# Altium schematic symbol library MMDLibrary.SCHLIB: 102 symbols
Pins are listed as number, name and electrical type; pins without a type are passive.

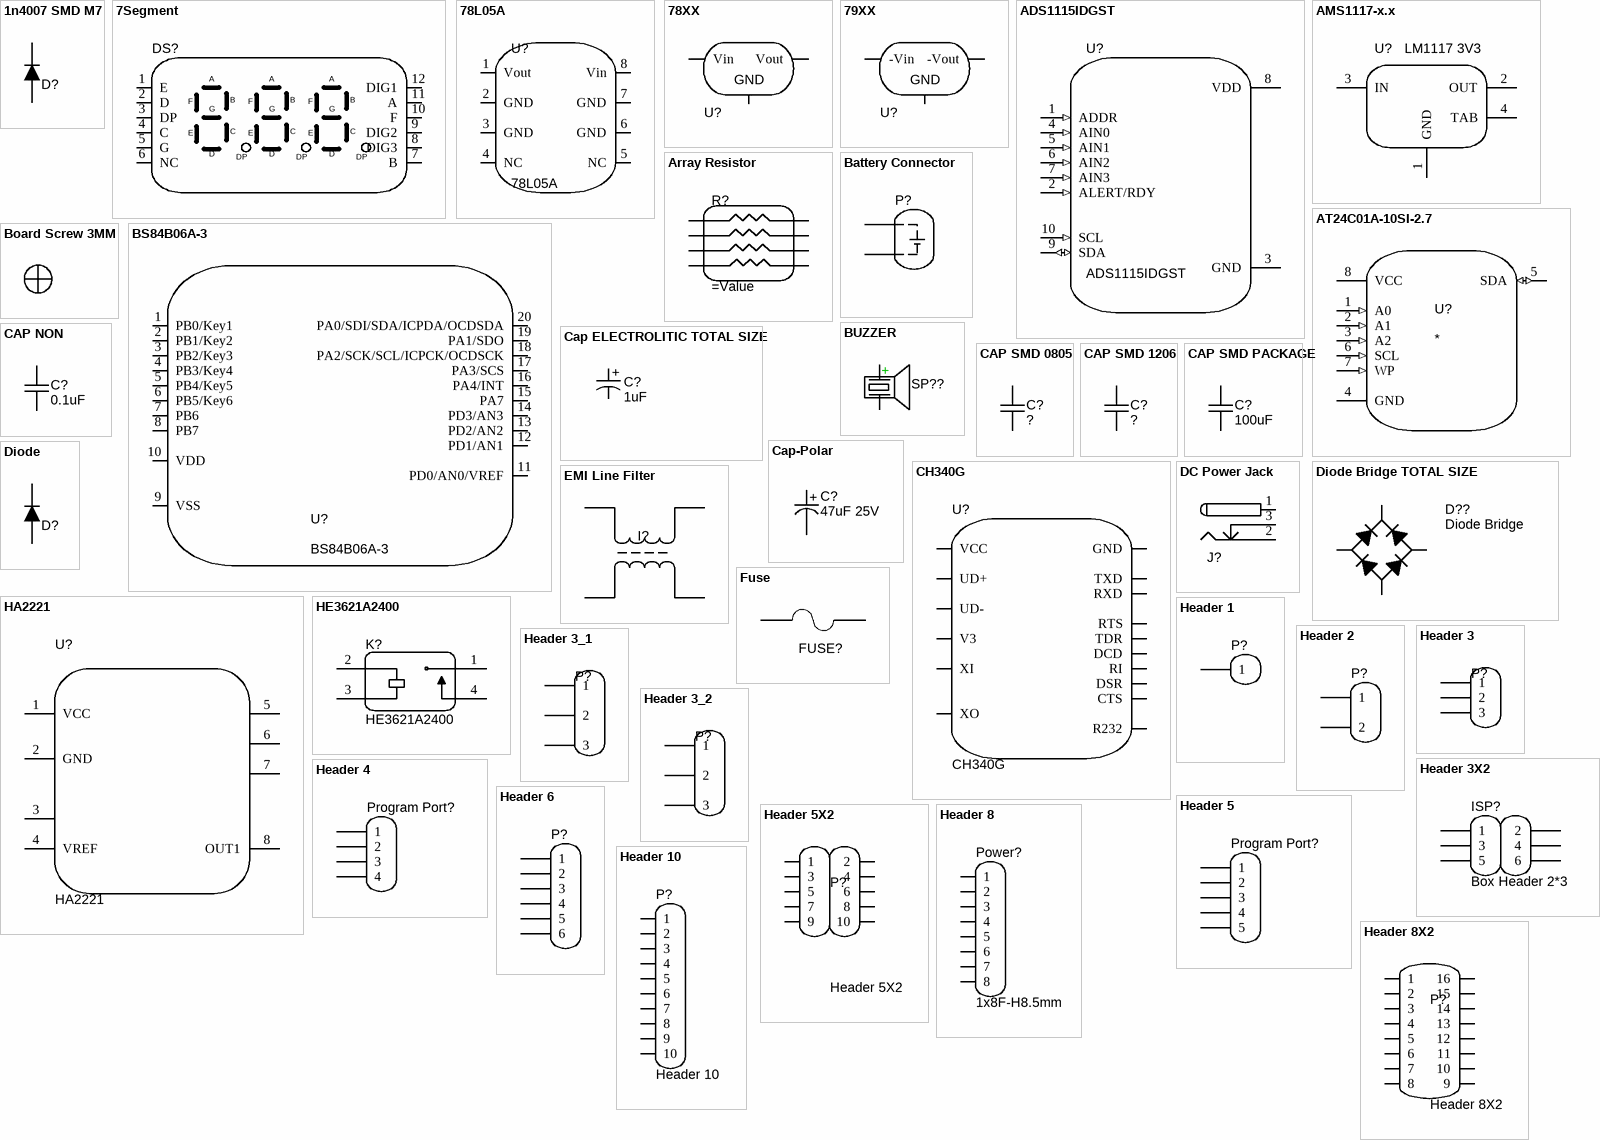
[diagram p0: symbols 1n4007 SMD M7 to Header 10]

## 1n4007 SMD M7
designator D?, comment 1n4007  (value not drawn)
Standard Rectifiers; Part. No: M7; Manufacturer: DC COMPONENTS; Designer: M Khosravi; Link: https://www.aliexpress.com/item/Smd-tube-1n4007-m7-SMA/1213719741.html?spm=2114.01010208.3.1.ZyZ7bC&ws_ab_test=searchweb0_0,searchweb201602_4_10065_10068_10084_10083_10080_10082_10081_10060_10061_10062_10056_10055_10054_10059_10099_10078_10079_427_10073_10103_10102_10096_10052_10050_10051,searchweb201603_4&btsid=db2be5ca-e560-400a-b91c-484ab5ee228b; Data: 16-12-2016
footprint DIOM4629X24N (Molded Diode, 2-Leads, Body 4/60x2/90mm, IPC Medium Density)
footprint SOD80, LL-34 (Diode, MiniMELF)
pins: 1, 2

## 7Segment
designator DS?
4031BS_CA / 0.4Inch / 3Bit
footprint SN460561N (DS101)
pins: 1 E, 2 D, 3 DP, 4 C, 5 G, 6 NC, 7 B, 8 DIG3, 9 DIG2, 10 F, 11 A, 12 DIG1

## 78L05A
designator U?
footprint SOIC127P600X175-8N
pins: 1 Vout, 2 GND, 3 GND, 4 NC, 5 NC, 6 GND, 7 GND, 8 Vin

## 78XX
designator U?  (value not drawn)
footprint TO-220 AB WITH HEAT SINK (Epoxy meets UL94, V0)
footprint TO-220 AB (Epoxy meets UL94, V0)
footprint TO-220 AB S (Epoxy meets UL94, V0)
footprint TO-220 AB WITH HEAT SINK ASM
footprint TO-220 AB with heatsink ya25 (Epoxy meets UL94, V0-Design:Abbas Basereh)
pins: 1 Vin, 2 GND, 3 Vout
1 alternate drawing of the same symbol

## 79XX
designator U?  (value not drawn)
Linear Voltage Regulator 79XX
footprint TO-220 AB WITH HEAT SINK (Epoxy meets UL94, V0)
footprint TO-220 AB (Epoxy meets UL94, V0)
footprint TO-220 AB S (Epoxy meets UL94, V0)
footprint TO-220 AB WITH HEAT SINK ASM
footprint TO-220 AB with heatsink ya25 (Epoxy meets UL94, V0-Design:Abbas Basereh)
pins: 1 -Vin, 2 GND, 3 -Vout

## ADS1115IDGST
designator U?
MP: ADS1115IDGST; Value: *; Price: None; Package: None; Availability: Unavailable
footprint SOP50P490X110-10N
pins: 1 ADDR (in), 2 ALERT/RDY (in), 3 GND (power), 4 AIN0 (in), 5 AIN1 (in), 6 AIN2 (in), 7 AIN3 (in), 8 VDD (power), 9 SDA (io), 10 SCL (in)

## AMS1117-x.x
designator U?, comment LM1117 3V3
x.x Volt, 800mA Low-Dropout Linear Regulator, 4-pin SOT-223; Designer: M Khosravi; Data: 16-12-2016
footprint SOT223 (SOT223, 4-Leads, Body 6.5x3.5mm, Pitch 2.30mm-Designer Abbas Basereh)
footprint SOT223_L (SOT223, 4-Leads, Body 6.5x3.5mm, Pitch 2.3mm, Lead Span 7mm, IPC High Density)
footprint SOT223_M (SOT223, 4-Leads, Body 6.5x3.5mm, Pitch 2.3mm, Lead Span 7mm, IPC Low Density)
footprint SOT223_N (SOT223, 4-Leads, Body 6.5x3.5mm, Pitch 2.3mm, Lead Span 7mm, IPC Medium Density)
pins: 1 GND (power), 2 OUT (power), 3 IN (power), 4 TAB (power)

## Array Resistor
designator R?
YC164-JR-07330RL
footprint RESCAXE80P320X160X70-8N
footprint RESCAXE80P320X160X70-8N
footprint RESCAXE80P320X160X70-8N
footprint RESCAXE80P320X160X70-8N
pins: 1, 2, 3, 4, 5, 6, 7, 8

## AT24C01A-10SI-2.7
designator U?
Two-wire Serial EEPROM; MP: AT24C01A-10SI-2.7; Package: None; Price: None; Value: *; Availability: Unavailable
footprint SOIC127P600X175-8N
pins: 1 A0 (in), 2 A1 (in), 3 A2 (in), 4 GND, 5 SDA (io), 6 SCL (in), 7 WP (in), 8 VCC (power)

## Battery Connector
designator P?
footprint HDR1X2 (Connector; Header; 2 Position)
pins: 1, 2

## Board Screw 3MM
designator M?, comment Screw  (value not drawn)
Board Screw With Spacer
footprint Board Screw
footprint Board Screw 3mm

## BS84B06A-3
designator U?
Touch A/D Flash MCU / BS84B06A-3
footprint SO20_WIDE_M (20-Pin Small Outline Package (SO20), IPC Low Density)
pins: 1 PB0/Key1, 2 PB1/Key2, 3 PB2/Key3, 4 PB3/Key4, 5 PB4/Key5, 6 PB5/Key6, 7 PB6, 8 PB7, 9 VSS, 10 VDD, 11 PD0/AN0/VREF, 12 PD1/AN1, 13 PD2/AN2, 14 PD3/AN3, 15 PA7, 16 PA4/INT, 17 PA3/SCS, 18 PA2/SCK/SCL/ICPCK/OCDSCK, 19 PA1/SDO, 20 PA0/SDI/SDA/ICPDA/OCDSDA

## BUZZER
designator SP??
PIEZO BUZZER ACTIVE; Designer: M Khosravi; Design Date: 1395/11/14; ComponentLink2Description: Reference; PackageDescription: THD; Publisher: M Khosravi; Mounting Technology: THD; Pin Count: 2; Status: Unreleased
footprint BUZZER 7.62mm DC (BUZZER 12mm DIA , 7.62mm pitch DESIGNER ABBAS BASEREH)
pins: 1 +, 2 -

## Cap ELECTROLITIC TOTAL SIZE
designator C?, comment 1uF
Cap electrolitic radial; VALUE: 1uF
footprint Cap electrolitic radial 10x20-5 (Cap electrolitic radial 10x20-5-Design:Abbas Basereh)
footprint Cap electrolitic radial 8x12-3.5 (Cap electrolitic radial 8x12-3.5-Design:Abbas Basereh)
footprint Cap electrolitic radial 10x16-5 (Cap electrolitic radial 10x16-5-Design:Abbas Basereh)
footprint Cap electrolitic radial 10x25-5 (Cap electrolitic radial 10x25-5-Design:Abbas Basereh)
footprint Cap electrolitic radial 10x30-5 (Cap electrolitic radial 10x30-5-Design:Abbas Basereh)
footprint Cap electrolitic radial 13x25-5 (Cap electrolitic radial 13x25-5-Design:Abbas Basereh)
footprint Cap electrolitic radial 16x26-7.5 (Cap electrolitic radial 16x26-7.5-Design:Abbas Basereh)
footprint Cap electrolitic radial 16x31.5-7.5 (Cap electrolitic radial 16x31.5-7.5-Design:Abbas Basereh)
footprint Cap electrolitic radial 18x26 (Cap electrolitic radial 18x26-Design:Abbas Basereh)
footprint Cap electrolitic radial 18x36-7.5 (Cap electrolitic radial 18x36-7.5-Design:Abbas Basereh)
footprint Cap electrolitic radial 18x40-7.5 (Cap electrolitic radial 18x40-7.5-Design:Abbas Basereh)
footprint Cap electrolitic radial 5x11-2 (Cap electrolitic radial 5x11-2-Design:Abbas Basereh)
footprint Cap electrolitic radial 5x12-2 (Cap electrolitic radial 5x12-2-Design:Abbas Basereh)
footprint Cap electrolitic radial 8x14-3.5 (Cap electrolitic radial 8x14-3.5-Design:Abbas Basereh)
footprint Cap electrolitic radial 6x7-2.5 (Cap electrolitic radial 6x7-2.5-Design:Abbas Basereh)
footprint Cap electrolitic radial 4x7-1.5 (Cap electrolitic radial 5x11-2-Design:Ali Hafizi)
footprint Cap electrolitic radial 6.3x12-2.5 (Capacitor Electrolytic D=6.3 x H=12 - P=2.5 mm, Altium Compatible)
footprint Cap electrolitic radial 8MM (Cap electrolitic radial 8MM-Design:Ali Hafizi)
footprint Cap electrolitic radial 8x11.5-3.5 (Cap electrolitic radial 8x11.5-3.5-Design:Ali Hafizi)
footprint Cap electrolitic radial 12.5x20-5 (Cap electrolitic radial 12.5x20-5-Design:Abbas Basereh)
footprint Cap electrolitic radial 12.5x25-5 (Cap electrolitic radial 12.5x25-5-Design:Abbas Basereh)
footprint Cap electrolitic radial 12.5x21.5-5 (Cap electrolitic radial 12.5x21.5-5-Design:Ali Hafizi)
footprint Cap1206_(3216X18L)Size A (Chip Capacitor, 2-Leads, Body 3.2x1.6mm, IPC High Density, chip Tantalum)
footprint Cap SMD 100UF 35~50v
footprint CAP SMD 470uF (SMD CAP 470uF)
footprint CAP SMD 1000UF 16V
pins: 1, 2
1 alternate drawing of the same symbol
text: +

## CAP NON
designator C?, comment 0.1uF
CAP; Designer: M Khosravi; VALUE: 0.1uF
footprint CAPC3413X12N (Chip Capacitor, 2-Leads, Body 3/40x1/30mm, IPC Medium Density)
pins: 1, 2

## CAP SMD 0805
designator C?, comment ?
CAP 0805; Designer: M Khosravi; Desc.: CAP SMD 0805; Data: 16-12-2016; VALUE: ?
footprint CAPC3413X12N (Chip Capacitor, 2-Leads, Body 3/40x1/30mm, IPC Medium Density)
pins: 1, 2

## CAP SMD 1206
designator C?, comment ?
CAP 1206; Designer: M Khosravi; Desc.: CAP SMD 1206; Data: 16-12-2016
footprint CAPC4817X12N (Chip Capacitor, 2-Leads, Body 4/80x1/70mm, IPC Medium Density)
pins: 1, 2

## CAP SMD PACKAGE
designator C?, comment 100uF
TOTAL CAPACITOR SMD PACK; Designer: M Khosravi; Desc.: CAP SMD TOTAL PACKAGES; VALUE: 100nF; Data: 2017-3-10
signal-integrity model CAP SMD (CAP SMD PACK)
footprint CAP0201 (Chip Capacitor, 2-Leads, Body 0/60x0/30mm, IPC Medium Density DESIGNER:ABBAS BASEREH)
footprint CAP0402 (Chip Capacitor, 2-Leads, Body 1/00x0/50mm, IPC Medium Density DESIGNER:ABBAS BASEREH)
footprint CAP0603 (Chip Capacitor, 2-Leads, Body 1/60x0/80mm, IPC Medium Density DESIGNER:ABBAS BASEREH)
footprint CAP0805 (Chip Capacitor, 2-Leads, Body 2/00x1/25mm, IPC Medium Density DESIGNER:ABBAS BASEREH)
footprint CAP1206 (Chip Capacitor, 2-Leads, Body 3/20x1/60mm, IPC Medium Density DESIGNER:ABBAS BASEREH)
footprint CAP1210 (Chip Capacitor, 2-Leads, Body 3/20x2/50mm, IPC Medium Density DESIGNER:ABBAS BASEREH)
footprint CAP1812 (Chip Capacitor, 2-Leads, Body 4/50x3/20mm, IPC Medium Density DESIGNER:ABBAS BASEREH)
footprint CAP2010 (Chip Capacitor, 2-Leads, Body 5/00x2/50mm, IPC Medium Density DESIGNER:ABBAS BASEREH)
footprint CAP2512 (Chip Capacitor, 2-Leads, Body 6/40x3/20mm, IPC Medium Density DESIGNER:ABBAS BASEREH)
footprint Cap402_(1005X05L) (Chip Capacitor, 2-Leads, Body 1.0x0.5mm, IPC High Density)
footprint Cap1206_(3216X15)
footprint Cap1206_(3216X15L) (Chip Capacitor, 2-Leads, Body 3.2x1.6mm, IPC High Density)
footprint Cap1206_(3216X18L)Size A (Chip Capacitor, 2-Leads, Body 3.2x1.6mm, IPC High Density, chip Tantalum)
footprint CAP805
footprint CAPC3413X12N (Chip Capacitor, 2-Leads, Body 3/40x1/30mm, IPC Medium Density-Design:Abbas Basereh)
footprint Cap SMD 100UF 35~50v
footprint CAP SMD 470uF (SMD CAP 470uF)
footprint CAP SMD 1000UF 16V
pins: 1, 2

## Cap-Polar
designator C?, comment 47uF 25V
Polar Capacitor; Designer: M Khosravi; Organazation: ControTec; Value: 1uF; Voltage: 16V; Adding Date: 1387/12/20
footprint CAP 5 (Footprint not found)
footprint cap 01
footprint cap 02
footprint cap 03
footprint cap 04
footprint CAP 05
footprint CAPP 1206 (3216X18L) Size A (Chip Capacitor, 2-Leads, Body 3.2x1.6mm, IPC High Density, chip Tantalum)
pins: 1 +, 2 -

## CH340G
designator U?
footprint SOP-16N
pins: 1 GND, 2 TXD, 3 RXD, 4 V3, 5 UD+, 6 UD-, 7 XI, 8 XO, 9 CTS, 10 DSR, 11 RI, 12 DCD, 13 TDR, 14 RTS, 15 R232, 16 VCC

## DC Power Jack
designator J?  (value not drawn)  (graphical)
DC Power Jack. Center Pin 2.5mm. Diameter: 5.7mm; Designer: M Khosravi; Company: Personal; Project Name: Laser; Adding Date: 10/21/2009
footprint DC Power Jack 1 (Power Adaptor Jack)
footprint DC Power Jack 2 (DC Power Jack. Center Pin 2.5mm. Diameter: 5.7mm)
pins: 1 (power), 2 (power), 3 (power)

## Diode
designator D?, comment 1n4007  (value not drawn)
Rectifiers; Part. No: M7; Designer: M Khosravi
footprint DIOM4629X24N (Molded Diode, 2-Leads, Body 4/60x2/90mm, IPC Medium Density)
footprint SOD80, LL-34 (Diode, MiniMELF)
pins: 1, 2

## Diode Bridge TOTAL SIZE
designator D??, comment Diode Bridge
Full Wave Diode Bridge; Designer: M Khosravi; Design Date: 1395/11/09; ComponentLink1Description: Datasheet; ComponentLink2Description: Reference; Mounting Technology: Surface Mount\Through-Hole; Status: Unreleased
footprint Bridge KBJ PACKAGE (KBJ Bridge Rectifiers DESIGNER :ABBAS BASEREH)
footprint Bridge KBL PACKAGE (KBL Bridge Rectifiers DESIGNER :ABBAS BASEREH)
footprint Bridge KBU PACKAGE (KBU Bridge Rectifiers DESIGNER :ABBAS BASEREH)
footprint Bridge WOB PACKAGE (WOB Bridge Rectifiers DESIGNER :ABBAS BASEREH)
footprint Bridge GBU PACKAGE (GBU Bridge Rectifiers DESIGNER :ABBAS BASEREH)
footprint Bridge KBP PACKAGE (KBP Bridge Rectifiers DESIGNER :ABBAS BASEREH)
footprint Bridge DB107 Package (DB107 Bridge Rectifiers DESIGNER :Ali Hafizi)
footprint Bridge Circle Package (Circle Bridge Rectifiers DESIGNER :Ali Hafizi)
footprint Bridge SMD Package (SMD Bridge Rectifiers DESIGNER :Ali Hafizi)
footprint Bridge SMD Package_ (SMD Bridge Rectifiers DESIGNER :Ali Hafizi)
pins: 1 +, 2 AC, 3 -, 4 AC

## EMI Line Filter
designator I?  (value not drawn)
footprint EMI
footprint ACM2012 (Common Mode Chokes TDK ACM2012)
footprint ELF2220 (NFM46P11 5.7X5.00mm, NFM2220)
footprint FIL_4_1206 (transformer LINE FILTER, 4-Leads, Body 3.2x1.6mm)
pins: 1, 2, 3, 4

## Fuse
designator FUSE?
Fuses; Designer: M Khosravi
footprint 1206 FUSE (Fast Acting Smd 1206 non-Resettable Fuse Chip For Pcb Board)
pins: 1, 2

## HA2221
designator U?
LED Driver
pins: 1 VCC, 2 GND, 3, 4 VREF, 5, 6, 7, 8 OUT1

## HE3621A2400
designator K?
HE3600 Series SPST 0.5 A 24 V Non Latching Through Hole Miniature S.I.L. Relay; MF: Littelfuse; MP: HE3621A2400; Purchase-URL: https://pricing.snapeda.com/search/part/HE3621A2400/?ref=eda; Price: None; Availability: Good; Package: None; SnapEDA_Link: https://www.snapeda.com/parts/HE3621A2400/Littelfuse/view-part/454540/?ref=snap; Value: *
footprint RELAY_HE3621A2400
pins: 1 COM, 2 COIL1, 3 COIL2, 4 NO

## Header 1
designator P?
footprint HDR1X2 (Connector; Header; 2 Position)
signal-integrity model Connector
footprint 7474966 (Mounting Tabs & Tubular Cable Lugs)
pins: 1

## Header 2
designator P?
footprint HDR1X2 (Connector; Header; 2 Position)
signal-integrity model Connector
pins: 1, 2

## Header 3
designator P?, comment P1  (value not drawn)
Header, 3-Pin; LatestRevisionDate: 17-Jul-2002; LatestRevisionNote: Re-released for DXP Platform.; Publisher: Altium Limited
footprint HDR1X3 (Footprint not found)
signal-integrity model Connector
pins: 1, 2, 3

## Header 3_1
designator P?, comment P1  (value not drawn)
Header, 3-Pin; LatestRevisionDate: 17-Jul-2002; LatestRevisionNote: Re-released for DXP Platform.; Publisher: Altium Limited
footprint HDR1X3 (Footprint not found)
signal-integrity model Connector
pins: 1, 2, 3

## Header 3_2
designator P?, comment P1  (value not drawn)
Header, 3-Pin; LatestRevisionDate: 17-Jul-2002; LatestRevisionNote: Re-released for DXP Platform.; Publisher: Altium Limited
footprint HDR1X3 (Footprint not found)
signal-integrity model Connector
pins: 1, 2, 3

## Header 3X2
designator ISP?, comment Box Header 2*3
LatestRevisionDate: 17-Jul-2002; LatestRevisionNote: Re-released for DXP Platform.; Publisher: Altium Limited
footprint AVR-ISP (Footprint not found)
signal-integrity model Connector
pins: 1, 2, 3, 4, 5, 6

## Header 4
designator Program Port?, comment Program  (value not drawn)
Header, 4-Pin; LatestRevisionDate: 17-Jul-2002; LatestRevisionNote: Re-released for DXP Platform.; Publisher: Altium Limited
signal-integrity model Connector
pins: 1, 2, 3, 4

## Header 5
designator Program Port?, comment Program  (value not drawn)
Header, 5-Pin; LatestRevisionDate: 17-Jul-2002; LatestRevisionNote: Re-released for DXP Platform.; Publisher: Altium Limited
footprint HDR1X5 (Connector; Header; 5 Position)
signal-integrity model Connector
pins: 1, 2, 3, 4, 5

## Header 5X2
designator P?
Header, 5-Pin, Dual row; LatestRevisionDate: 17-Jul-2002; LatestRevisionNote: Re-released for DXP Platform.; Publisher: Altium Limited
footprint HDR2X5 (Connector; Header; 5x2 Position)
signal-integrity model Connector
pins: 1, 2, 3, 4, 5, 6, 7, 8, 9, 10

## Header 6
designator P?  (value not drawn)
Header, 6-Pin; LatestRevisionDate: 17-Jul-2002; LatestRevisionNote: Re-released for DXP Platform.; Publisher: Altium Limited
footprint My_1X06
signal-integrity model Connector
pins: 1, 2, 3, 4, 5, 6

## Header 8
designator Power?, comment 1x8F-H8.5mm
Header, 8-Pin; LatestRevisionDate: 17-Jul-2002; LatestRevisionNote: Re-released for DXP Platform.; Publisher: Altium Limited; Value: 1x8F-H8.5mm
footprint HDR1X8 (Connector; Header; 8 Position)
signal-integrity model Connector
pins: 1, 2, 3, 4, 5, 6, 7, 8

## Header 8X2
designator P?
Header, 8-Pin, Dual row; LatestRevisionDate: 17-Jul-2002; LatestRevisionNote: Re-released for DXP Platform.; Publisher: Altium Limited
footprint HDR2X5 (Connector; Header; 5x2 Position)
signal-integrity model Connector
pins: 1, 2, 3, 4, 5, 6, 7, 8, 9, 10, 11, 12, 13, 14, 15, 16

## Header 10
designator P?
Header, 10-Pin; LatestRevisionDate: 17-Jul-2002; LatestRevisionNote: Re-released for DXP Platform.; Publisher: Altium Limited
footprint HDR1X10 (Connector; Header; 10 Position)
signal-integrity model Connector
pins: 1, 2, 3, 4, 5, 6, 7, 8, 9, 10

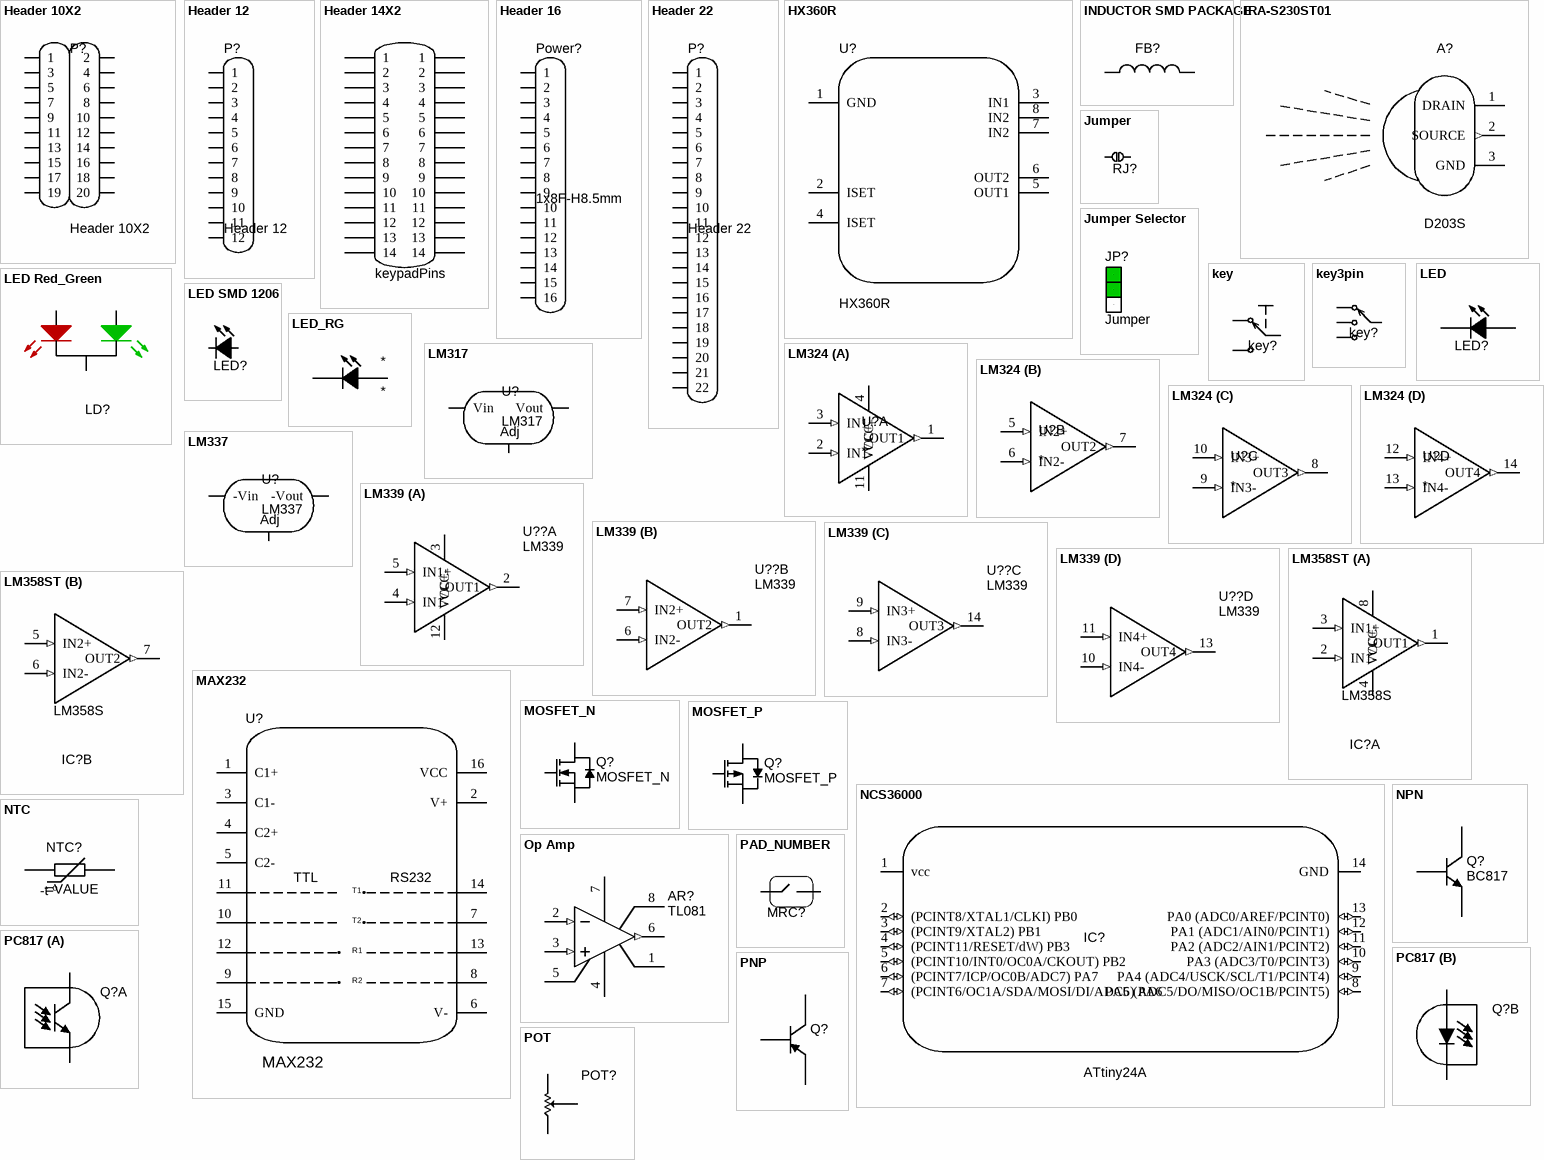
[diagram p1: symbols Header 10X2 to POT]

## Header 10X2
designator P?
Header, 10-Pin, Dual row,100Mil,21mmHeight; LatestRevisionDate: 17-Jul-2002; LatestRevisionNote: Re-released for DXP Platform.; Publisher: Altium Limited
footprint HDR2X10 (Connector; Header; 10x2 Position)
signal-integrity model Connector
pins: 1, 2, 3, 4, 5, 6, 7, 8, 9, 10, 11, 12, 13, 14, 15, 16, 17, 18, 19, 20

## Header 12
designator P?
Header, 12-Pin; LatestRevisionDate: 17-Jul-2002; LatestRevisionNote: Re-released for DXP Platform.; Publisher: Altium Limited
pins: 1, 2, 3, 4, 5, 6, 7, 8, 9, 10, 11, 12

## Header 14X2
designator *?, comment keypadPins  (net tie)
footprint 14Pin
footprint 14Pin
footprint 14Pin
pins: 1, 1, 2, 2, 3, 3, 4, 4, 5, 5, 6, 6, 7, 7, 8, 8, 9, 9, 10, 10, 11, 11, 12, 12, 13, 13, 14, 14

## Header 16
designator Power?, comment 1x8F-H8.5mm
16 pin; LatestRevisionDate: 17-Jul-2002; LatestRevisionNote: Re-released for DXP Platform.; Publisher: Altium Limited; Value: 1x8F-H8.5mm
footprint HDR1X8 (Connector; Header; 8 Position)
signal-integrity model Connector
pins: 1, 2, 3, 4, 5, 6, 7, 8, 9, 10, 11, 12, 13, 14, 15, 16

## Header 22
designator P?
Header, 22-Pin; LatestRevisionDate: 17-Jul-2002; LatestRevisionNote: Re-released for DXP Platform.; Publisher: Altium Limited
signal-integrity model Connector
pins: 1, 2, 3, 4, 5, 6, 7, 8, 9, 10, 11, 12, 13, 14, 15, 16, 17, 18, 19, 20, 21, 22

## HX360R
designator U?
LEDDRIVER / supply current / 300MA
pins: 1 GND, 2 ISET, 3 IN1, 4 ISET, 5 OUT1, 6 OUT2, 7 IN2, 8 IN2

## INDUCTOR SMD PACKAGE
designator FB?
TOTAL INDUCTOR SMD PACK; Designer: M Khosravi; Desc.: INDUCTOR  SMD TOTAL PACKAGES; Data: 2017-3-10
footprint IND0201 (Chip Inductor, 2-Leads, Body 0/60x0/30mm, IPC Medium Density DESIGNER:ABBAS BASEREH)
footprint IND0402 (Chip Inductor, 2-Leads, Body 1/00x0/50mm, IPC Medium Density DESIGNER:ABBAS BASEREH)
footprint IND0603 (Chip Inductor, 2-Leads, Body 1/60x0/80mm, IPC Medium Density DESIGNER:ABBAS BASEREH)
footprint IND0805 (Chip Inductor, 2-Leads, Body 2/00x1/25mm, IPC Medium Density DESIGNER:ABBAS BASEREH)
footprint IND1206 (Chip Inductor, 2-Leads, Body 3/20x1/60mm, IPC Medium Density DESIGNER:ABBAS BASEREH)
footprint IND1210 (Chip Inductor, 2-Leads, Body 3/20x2/50mm, IPC Medium Density DESIGNER:ABBAS BASEREH)
footprint IND2512 (Chip Inductor, 2-Leads, Body 6/40x3/20mm, IPC Medium Density DESIGNER:ABBAS BASEREH)
footprint IND1812 (Chip Inductor, 2-Leads, Body 4/50x3/20mm, IPC Medium Density DESIGNER:ABBAS BASEREH)
signal-integrity model IND SMD (INDUCTOR SMD PACK)
pins: 1, 2

## IRA-S230ST01
designator A?, comment D203S
Sensor PIR; MF: Murata; MP: IRA-S230ST01; SnapEDA_Link: https://www.snapeda.com/parts/IRA-S230ST01/Murata/view-part/4970188/?ref=snap; Availability: Warning; Price: None; Package: Radial-3 Murata; DigiKey-Purchase-URL: https://snapeda.com/shop?store=DigiKey&id=4970188; Value: *; Mouser-Purchase-URL: https://snapeda.com/shop?store=Mouser&id=4970188
footprint TO254P940H490-3
pins: 1 DRAIN (power), 2 SOURCE (out), 3 GND (power)

## Jumper
designator RJ?  (value not drawn)
0R
footprint 805 jumper (Chip Resistor, 2-Leads, Body 3/40x1/30mm, IPC Medium Density-Design:Abbas Basereh)
pins: 1, 2

## Jumper Selector
designator JP?, comment Jumper  (graphical)
Jumper Selector
footprint jumper selector
footprint Jumper Selector SMD
footprint Model Name (Footprint not found)
footprint Jumper Selector SMD
pins: 1, 2, 3

## key
designator key?  (value not drawn)
footprint Switch - Push to On
footprint SW-PB
pins: 1, 2, 2

## key3pin
designator key?  (value not drawn)
key
footprint Switch - Push to On
footprint SW-PB
pins: 1, 1, 2, 2

## LED
designator LED?, comment RED  (value not drawn)
SMD LED; color: RED
footprint LED 1206
pins: 1, 2

## LED Red_Green
designator LD?, comment LED  (value not drawn)
Typical INFRARED GaAs LED; Published: 8-Jun-2000; LatestRevisionDate: 08-Jul-2005; LatestRevisionNote: Mech Layer 1 removed.; Publisher: Altium Limited
footprint My_DUOLED5MM
pins: AG, AR, K

## LED SMD 1206
designator LED?, comment SMD 1206 LED  (value not drawn)
footprint LED 1206
pins: 1, 2

## LED_RG
designator *
pins: 1, 2

## LM317
designator U?
Adjustable Output, Positive / 1.5 A / Output Adjustable between 1.2 V and 37 V
pins: 1 Adj, 2 Vin, 3 Vout

## LM324
designator U?
these devices consist of four independent high-gain frequency-compensated operational amplifiers that are designed sp...; MP: altium_native_batch; Package: None; Price: None; Availability: Unavailable; Value: *
footprint SOIC127P600X175-14N
part A pins: 1 OUT1 (out), 2 IN1- (in), 3 IN1+ (in), 4 VCC+ (power), 11 VCC- (power)
part B pins: 5 IN2+ (in), 6 IN2- (in), 7 OUT2 (out)
part C pins: 8 OUT3 (out), 9 IN3- (in), 10 IN3+ (in)
part D pins: 12 IN4+ (in), 13 IN4- (in), 14 OUT4 (out)

## LM337
designator U?
Adjustable Output, Negative / 1.5 A / Output Adjustable between -1.2 V and- 37 V
pins: 1 Adj, 2 -Vout, 3 -Vin

## LM339
designator U??
footprint Model Name (Footprint not found)
footprint SO14
part A pins: 2 OUT1 (out), 3 VCC+ (power), 4 IN1- (in), 5 IN1+ (in), 12 VCC- (power)
part B pins: 1 OUT2 (out), 6 IN2- (in), 7 IN2+ (in)
part C pins: 8 IN3- (in), 9 IN3+ (in), 14 OUT3 (out)
part D pins: 10 IN4- (in), 11 IN4+ (in), 13 OUT4 (out)

## LM358ST
designator IC?, comment LM358S
General Purpose Amplifier 2 Circuit 8-MiniSO; MF: STMicroelectronics; MP: LM358ST; Mouser-Purchase-URL: https://snapeda.com/shop?store=Mouser&id=225512; Arrow_Electronics-Purchase-URL: https://snapeda.com/shop?store=Arrow+Electronics&id=225512; SnapEDA_Link: https://www.snapeda.com/parts/LM358ST/STMicroelectronics/view-part/225512/?ref=snap; Package: MSOP-8 STMicroelectronics; DigiKey-Purchase-URL: https://snapeda.com/shop?store=DigiKey&id=225512; Price: None; Availability: Good; Value: *
footprint SOIC127P600X175-8N (Footprint not found)
part A pins: 1 OUT1 (out), 2 IN1- (in), 3 IN1+ (in), 4 VCC- (power), 8 VCC+ (power)
part B pins: 5 IN2+ (in), 6 IN2- (in), 7 OUT2 (out)

## MAX232
designator U?
+5V Powered, Multi-Channel RS-232 Driver/Receiver; ComponentAuthor: M khosravi; ComponentLink1Description: Datasheet; ComponentLink1URL: http://pdfserv.maxim-ic.com/en/ds/MAX220-MAX249.pdf
footprint DIP16
footprint SO16 (SOIC, 16-Leads, Body 9.9x3.9mm, Pitch 1.27mm, IPC Medium Density)
footprint NSO16_L (SOIC, 16-Leads, Body 9.9x3.9mm, Pitch 1.27mm, IPC High Density)
footprint NSO16_M (SOIC, 16-Leads, Body 9.9x3.9mm, Pitch 1.27mm, IPC Low Density)
footprint NSO16_N (SOIC, 16-Leads, Body 9.9x3.9mm, Pitch 1.27mm, IPC Medium Density)
pins: 1 C1+, 2 V+, 3 C1-, 4 C2+, 5 C2-, 6 V-, 7 T2OUT, 8 R2IN, 9 R2OUT, 10 T2IN, 11 T1IN, 12 R1OUT, 13 R1IN, 14 T1OUT, 15 GND (power), 16 VCC (power)
text: TTL; RS232; T1; T2; R1; R2

## MOSFET_N
designator Q?
AO3400
footprint Model Name (Footprint not found)
pins: 1 G, 2 S, 3 D

## MOSFET_P
designator Q?
AO3401
pins: 1 G, 2 S, 3 D

## NCS36000
designator IC?, comment ATtiny24A
IC PIR DETECTOR CTLR 14SOIC; MF: ON Semiconductor; MP: ATtiny24A; Package: SOIC-14 ON Semiconductor; Price: None; Availability: Bad; SnapEDA_Link: https://www.snapeda.com/parts/NCS36000/ON%20Semiconductor/view-part/3219036/?ref=snap; Value: *; Check_prices: a
footprint SO14
pins: 1 vcc (power), 2 (PCINT8/XTAL1/CLKI) PB0 (io), 3 (PCINT9/XTAL2) PB1 (io), 4 (PCINT11/RESET/dW) PB3 (io), 5 (PCINT10/INT0/OC0A/CKOUT) PB2 (io), 6 (PCINT7/ICP/OC0B/ADC7) PA7 (io), 7 (PCINT6/OC1A/SDA/MOSI/DI/ADC6) PA6 (io), 8 PA5 (ADC5/DO/MISO/OC1B/PCINT5) (io), 9 PA4 (ADC4/USCK/SCL/T1/PCINT4) (io), 10 PA3 (ADC3/T0/PCINT3) (io), 11 PA2 (ADC2/AIN1/PCINT2) (io), 12 PA1 (ADC1/AIN0/PCINT1) (io), 13 PA0 (ADC0/AREF/PCINT0) (io), 14 GND (power)

## NPN
designator Q?, comment BC817
NPN Transistor
footprint SOT23-3P96_237X112L42X44 (Footprint not found)
simulation model NPN
signal-integrity model NPN
pins: 1 B, 2 E, 3 C

## NTC
designator NTC?  t: -t º
NTC Thermistor
footprint 05D XXX (MOV-05DxxxK Metal Oxide Varistors (MOVs) are 5 mm-Design:Abbas Basereh)
footprint 07D XXX (MOV-07DxxxK Metal Oxide Varistors (MOVs) are 7 mm-Design:Abbas Basereh)
footprint 10D XXX (MOV-10DxxxK Metal Oxide Varistors (MOVs) are 10 mm-Design:Abbas Basereh)
footprint 14D XXX (MOV-14DxxxK Metal Oxide Varistors (MOVs) are 14 mm-Design:Abbas Basereh)
footprint 20D XXX (MOV-20DxxxK Metal Oxide Varistors (MOVs) are 20 mm-Design:Abbas Basereh)
footprint 23D XXX (MOV-23DxxxK Metal Oxide Varistors (MOVs) are 23 mm-Design:Abbas Basereh)
pins: 1, 2

## Op Amp
designator AR?, comment TL081
FET Operational Amplifier; Published: 8-Jun-2000; LatestRevisionDate: 17-Jul-2002; LatestRevisionNote: Re-released for DXP Platform.; DatasheetVersion: REV. B; PackageVersion: 1990; PackageReference: H-08A; Publisher: Altium Limited; PackageDescription: Can; 8 Leads; Pin Circle Dia. 5.08 mm; Lead Dia. 0.53 mm (max); ComponentLink1Description: Manufacturer Link; ComponentLink1URL: http://www.analog.com/
footprint H-08A (Can; 8 Leads; Pin Circle Dia. 5.08 mm; Lead Dia. 0.53 mm (max))
simulation model AD645A (Spice Subcircuit)
pins: 1 OS NUL, 2 IN- (in), 3 IN+ (in), 4 V- (power), 5 OS NUL, 6 OUT (out), 7 V+ (power), 8 TAB

## PAD_NUMBER
designator MRC?  (value not drawn)  (net tie, no BOM)
footprint PAD_NUMBER
pins: 1, 2

## PC817
designator Q?  (value not drawn)
DIP 4pin General Purpose  Photocoupler; ComponentLink2Description: DIP 4pin General Purpose
footprint SMT Gullwing Lead-Form (SOP, 4-Leads, Body 4/65x6/75mm, Pitch 2/54mm, IPC Medium Density designer:abbas basereh)
part A pins: 3 E, 4 C
part B pins: 1 A, 2 K

## PNP
designator Q?
PNP  Transistor
footprint SOT23-3P96_237X112L42X44 (Footprint not found)
simulation model NPN
signal-integrity model NPN
pins: 1 B, 2 E, 3 C

## POT
designator POT?, comment 10K  (value not drawn)
Variable Resistor; Value: 10K
footprint POT 4 (Trimmer)
footprint POT 2 (Trimmer)
footprint POT (Voloume)
footprint POT MULTITURN THIN (Footprint not found)
footprint POT 3 (Volume Right)
pins: 1 CCW, 2 CW, 3 SetPoint

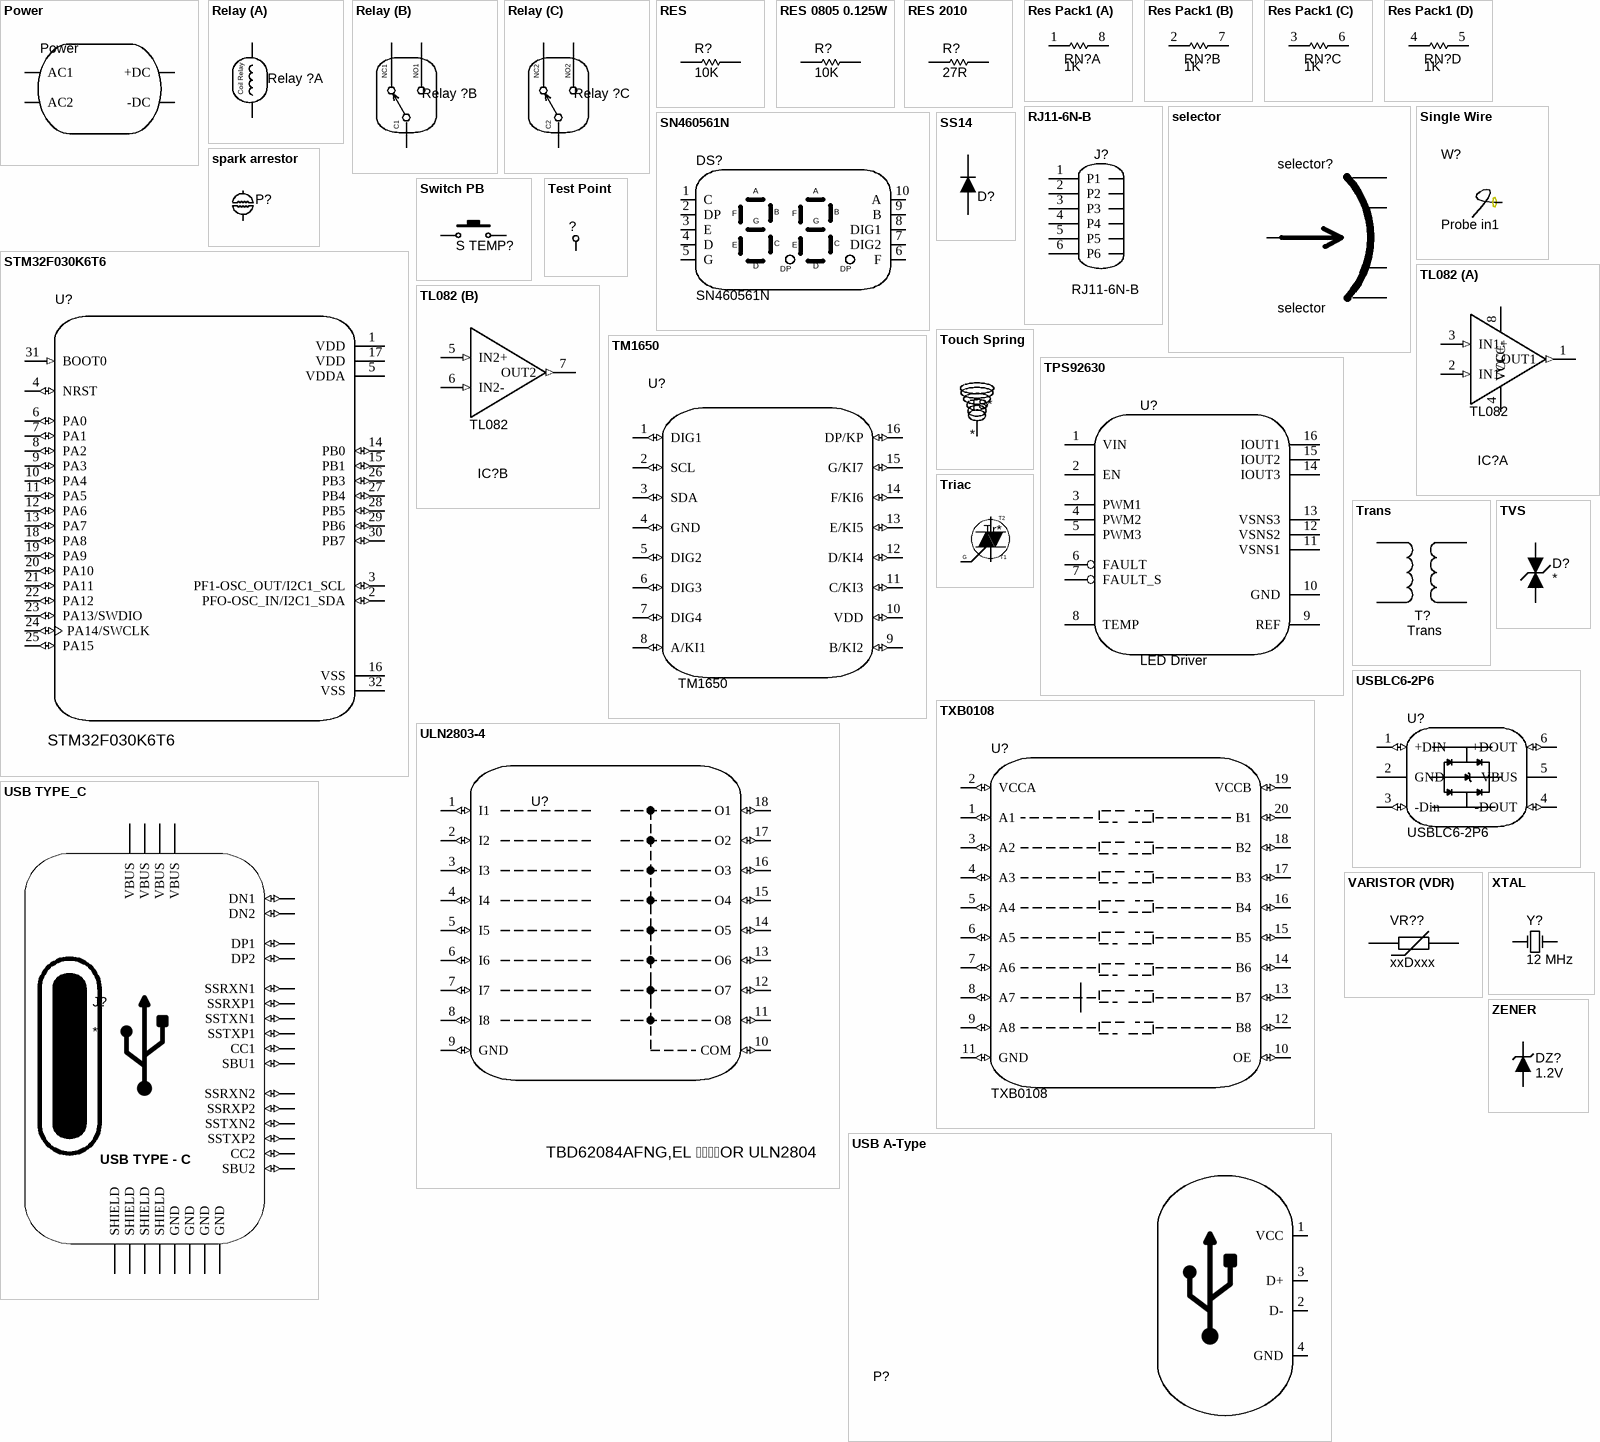
[diagram p2: symbols Power to ZENER]

## Power
designator Power
footprint Power
pins: +DC, -DC, AC1, AC2

## Relay
designator Relay ?, comment Relay  24V 2A  (value not drawn)
Relay MCB-S-224-C-S - 24V coil, 2x 1A / 125VAC contacts
part A pins: coil1, coil2
part B pins: C1, NC1, NO1
part C pins: C2, NC2, NO2
part A text: Coil Relay

## RES
designator R?, comment 10K
footprint RESC3413X04N (Chip Resistor, 2-Leads, Body 3/40x1/30mm, IPC Medium Density)
footprint RES1206 (Chip Resistor, 2-Leads, Body 3/20x1/60mm, IPC Medium Density DESIGNER:ABBAS BASEREH)
pins: 1, 2

## RES 0805 0.125W
designator R?, comment 10K
RES 0805; Designer: M Khosravi; Desc.: RES SMD 0805; Data: 16-12-2016
footprint RESC3413X04N (Chip Resistor, 2-Leads, Body 3/40x1/30mm, IPC Medium Density)
pins: 1, 2

## RES 2010
designator R?, comment 27R
RES 2010; Designer: M Khosravi; Desc.: RES SMD 2112; Data: 16-12-2016
footprint RESC3413X04N (Chip Resistor, 2-Leads, Body 3/40x1/30mm, IPC Medium Density)
footprint RES2010 (Chip Resistor, 2-Leads, Body 5/00x2/50mm, IPC Medium Density DESIGNER:ABBAS BASEREH)
pins: 1, 2

## Res Pack1
designator RN?  value 1K  (hidden comment: Res Pack1)
Isolated Resistor Network - Parts; Sim Note: Enter the Resistance value into parameter field.; Published: 24-Mar-1999; LatestRevisionDate: 29-May-2009; LatestRevisionNote: IPC-7351 Footprint Added.; PackageReference: SOIC16; Publisher: Altium Limited; PackageDescription: 16-Pin Small Outline Integrated Circuit 1.27 mm Pitch; Code_JEDEC: MS-012-AC; Code_IPC: SOIC127P600-16
footprint SOIC16_N (SOIC, 16-Leads, Body 9.9x3.9mm, Pitch 1.27mm, IPC Medium Density)
footprint SOIC16_L (SOIC, 16-Leads, Body 9.9x3.9mm, Pitch 1.27mm, IPC High Density)
footprint SOIC16_M (SOIC, 16-Leads, Body 9.9x3.9mm, Pitch 1.27mm, IPC Low Density)
simulation model RESISTOR (Resistor)
signal-integrity model Res Pack
part A pins: 1, 8
part B pins: 2, 7
part C pins: 3, 6
part D pins: 4, 5

## RJ11-6N-B
designator J?  (graphical)
6 Position 1 Port Right Angle RJ11 Low Profile Filtered EMI/RFI Modular Jack; MF: TE Connectivity; MP: RJ11-6N-B; Availability: Unavailable; SnapEDA_Link: https://www.snapeda.com/parts/RJ11-6N-B/TE%20Connectivity%20Corcom%20Filters/view-part/2771781/?ref=snap; Package: None; Price: None; TE_purchase_URL: https://www.te.com/usa-en/product-6609212-4.html?te_bu=Cor&te_type=disp&te_campaign=seda_glo_cor-seda-global-disp-prtnr-fy19-seda-model-bom-cta_sma-317_1&elqCampaignId=32493; Value: *
footprint TE_RJ11-6N-B
footprint TE_RJ11-6N-B
pins: 1 P1, 2 P2, 3 P3, 4 P4, 5 P5, 6 P6

## selector
designator selector?
footprint selector
pins: 1, 2, 3, 4, 5

## Single Wire
designator W?  (value not drawn)
A Customize Component For Single Wire Connection; Designer: M Khosravi; Company: IPA Co; Adding Date: 1388/04/05; Color: Blue; Wire Name: *; Probe in1: Probe in1
footprint wire 1.5 mm
footprint wire 2.0 mm
pins: 1

## SN460561N
designator DS?
SN460561N_CA / 0.56Inch / 2Bit
footprint SN460561N (DS101)
pins: 1 C, 2 DP, 3 E, 4 D, 5 G, 6 F, 7 DIG2, 8 DIG1, 9 B, 10 A

## spark arrestor
designator P?  (value not drawn)  (no BOM)
Header, 2-Pin; LatestRevisionDate: 17-Jul-2002; LatestRevisionNote: Re-released for DXP Platform.; Publisher: Altium Limited
footprint J2
signal-integrity model Connector
pins: 1, 2

## SS14
designator D?  (value not drawn)
Schottky rectifier
footprint DIOM4629X24N (Molded Diode, 2-Leads, Body 4/60x2/90mm, IPC Medium Density)
footprint SOD80, LL-34 (Diode, MiniMELF)
pins: 1, 2

## STM32F030K6T6
designator U?
Price: None; MP: STM32F030K6T6; Value: *; Availability: Unavailable; Package: None
footprint QFP80P900X900X160-32N
footprint QFP80P900X900X160-32N
footprint QFP80P900X900X160-32N
footprint QFP80P900X900X160-32N
pins: 1 VDD (power), 2 PFO-OSC_IN/I2C1_SDA (io), 3 PF1-OSC_OUT/I2C1_SCL (io), 4 NRST (io), 5 VDDA (power), 6 PA0 (io), 7 PA1 (io), 8 PA2 (io), 9 PA3 (io), 10 PA4 (io), 11 PA5 (io), 12 PA6 (io), 13 PA7 (io), 14 PB0 (io), 15 PB1 (io), 16 VSS (power), 17 VDD (power), 18 PA8 (io), 19 PA9 (io), 20 PA10 (io), 21 PA11 (io), 22 PA12 (io), 23 PA13/SWDIO (io), 24 PA14/SWCLK (io), 25 PA15 (io), 26 PB3 (io), 27 PB4 (io), 28 PB5 (io), 29 PB6 (io), 30 PB7 (io), 31 BOOT0 (in), 32 VSS (power)

## Switch PB
designator S TEMP?  (value not drawn)
Push Button Switch
footprint Switch - Push to On
footprint SW-PB
pins: 1, 2

## Test Point
designator ?
footprint Test Point
footprint Test Point Small
footprint Test Point SMD
pins: 1 T

## TL082
designator IC?
Dual JFET Input Operational Amplifier
footprint SOIC127P600X175-8N (Footprint not found)
part A pins: 1 OUT1 (out), 2 IN1- (in), 3 IN1+ (in), 4 VCC- (power), 8 VCC+ (power)
part B pins: 5 IN2+ (in), 6 IN2- (in), 7 OUT2 (out)

## TM1650
designator U?
TM1650<P> LED Driver and keyboard; MF: tm; Package: None; Availability: Not in stock; Value: *; MP: TM1650; Check_prices: https://www.snapeda.com/parts/TM1650/TMMH/view-part/?ref=eda; Price: None; SnapEDA_Link: https://www.snapeda.com/parts/TM1650/TMMH/view-part/?ref=snap
footprint SOP-16
footprint SOP-16
pins: 1 DIG1 (io), 2 SCL (io), 3 SDA (io), 4 GND (io), 5 DIG2 (io), 6 DIG3 (io), 7 DIG4 (io), 8 A/KI1 (io), 9 B/KI2 (io), 10 VDD (io), 11 C/KI3 (io), 12 D/KI4 (io), 13 E/KI5 (io), 14 F/KI6 (io), 15 G/KI7 (io), 16 DP/KP (io)

## Touch Spring
designator TS*
footprint Toch Spring 15X20(2_HOAL)
footprint Touch_10
footprint Toch Spring 15X20
pins: 1

## TPS92630
designator U?, comment LED Driver
pins: 1 VIN, 2 EN, 3 PWM1, 4 PWM2, 5 PWM3, 6 FAULT, 7 FAULT_S, 8 TEMP, 9 REF, 10 GND, 11 VSNS1, 12 VSNS2, 13 VSNS3, 14 IOUT3, 15 IOUT2, 16 IOUT1

## Trans
designator T?
Transformer; Published: 24-Mar-1999; LatestRevisionDate: 08-Jul-2005; LatestRevisionNote: Mech Layer 1 removed.; PackageReference: TRANS; Publisher: Altium Limited; PackageDescription: Transformer; 4 Leads
footprint TRANS (Transformer; 4 Leads)
simulation model TRANSFORMER (Transformer)
pins: 1, 2, 3, 4

## Triac
designator Tr*  (value not drawn)
BT13X
footprint TO-220 AB S (Epoxy meets UL94, V0-Design:Abbas Basereh)
pins: 1 T1, 2 T2, 3 G

## TVS
designator D?
SMJ18CA; VALUE: *
footprint DO-214AB(SMC) (Molded Diode, 2-Leads, Body 6/85x5/90mm, IPC Medium Density DESIGNER ABBAS BASEREH)
pins: 1, 2

## TXB0108
designator U?  (graphical)
Voltage Level Translator Bidirectional 1 Circuit 8 Channel 100Mbps 20-BGA Microstar Junior (2.5x3.0); MF: Texas Instruments; Purchase-URL: https://pricing.snapeda.com/search/part/TXB0108/?ref=eda; Package: None; MP: TXB0108; Value: *; SnapEDA_Link: https://www.snapeda.com/parts/TXB0108/Texas+Instruments/view-part/?ref=snap; Availability: In Stock; Price: None; Check_prices: https://www.snapeda.com/parts/TXB0108/Texas+Instruments/view-part/?ref=eda
footprint SOP65P640X120-20N
pins: 1 A1 (io), 2 VCCA (io), 3 A2 (io), 4 A3 (io), 5 A4 (io), 6 A5 (io), 7 A6 (io), 8 A7 (io), 9 A8 (io), 10 OE (io), 11 GND (io), 12 B8 (io), 13 B7 (io), 14 B6 (io), 15 B5 (io), 16 B4 (io), 17 B3 (io), 18 B2 (io), 19 VCCB (io), 20 B1 (io)

## ULN2803-4
designator U?, comment TBD62084AFNG,EL OR ULN2804
ULN2803 ULN2804 / TBD62084AFNG,EL; MF: Toshiba Semiconductor; MP: TBD62083AFNG,EL; Purchase-URL: https://pricing.snapeda.com/search/part/TBD62083AFNG,EL/?ref=eda; Price: None; Package: LSSOP-18 Toshiba Semiconductor; SnapEDA_Link: https://www.snapeda.com/parts/TBD62083AFNG,EL/Toshiba+Semiconductor+and+Storage/view-part/?ref=snap; Availability: In Stock; Check_prices: https://www.snapeda.com/parts/TBD62083AFNG,EL/Toshiba+Semiconductor+and+Storage/view-part/?ref=eda
footprint SOIC127P1030X245-18N
pins: 1 I1 (io), 2 I2 (io), 3 I3 (io), 4 I4 (io), 5 I5 (io), 6 I6 (io), 7 I7 (io), 8 I8 (io), 9 GND (io), 10 COM (io), 11 O8 (io), 12 O7 (io), 13 O6 (io), 14 O5 (io), 15 O4 (io), 16 O3 (io), 17 O2 (io), 18 O1 (io)

## USB A-Type
designator P?, comment USB Connector  (value not drawn)
USB Connector-A Type
footprint USB2.5-2V4A (Connector; USB1.1, Type A, Thru-Hole; 4 Position; Vertical)
footprint USB2.5-2H4C (Connector; USB1.1, Type A, Thru-Hole; 4 Position; Right Angle)
footprint USB2.5-4H8B (Connector; USB1.1, Type A, Thru-Hole; 4x4 Position; Right Angle)
footprint USB A TYPE Right Angle (Connector; USB1.1, Type A, SM; 4 Position; Right Angle DESIGNER ABBAS BASEREH)
footprint USB2.0-4H4 (Connector; USB1.1, Type A, Thru-Hole; 4 Position; Right Angle DESIGNER ABBAS BASEREH)
footprint USB/SM2.5-4H4 (Connector; USB1.1, Type A, SM; 4 Position; Right Angle DESIGNER ABBAS BASEREH)
footprint USB/SM2.5-4H4A (Connector; USB1.1, Type A, SM; 4 Position; Right Angle)
pins: 1 VCC (power), 2 D- (io), 3 D+ (io), 4 GND (power)

## USB TYPE_C
designator J?
Part Number : UJ31-CH-G2-SMT-TR / Type C, USB 3.2 Gen 2, 10 Gbps, 20 Vdc, 5 A, Right Angle, Surface Mount, Black Insulator, USB Receptacle; MF: Same Sky; SnapEDA_Link: https://www.snapeda.com/parts/UJ31-CH-G2-SMT-TR/Same+Sky/view-part/?ref=snap; Package: None; Value: *; MP: UJ31-CH-G2-SMT-TR; Check_prices: https://www.snapeda.com/parts/UJ31-CH-G2-SMT-TR/Same+Sky/view-part/?ref=eda
footprint CUI_UJ31-CH-G2-SMT-TR
pins: A1 GND (power), A2 SSTXP1 (io), A3 SSTXN1 (io), A4 VBUS (power), A5 CC1 (io), A6 DP1 (io), A7 DN1 (io), A8 SBU1 (io), A9 VBUS (power), A10 SSRXN2 (io), A11 SSRXP2 (io), A12 GND (power), B1 GND (power), B2 SSTXP2 (io), B3 SSTXN2 (io), B4 VBUS (power), B5 CC2 (io), B6 DP2 (io), B7 DN2 (io), B8 SBU2 (io), B9 VBUS (power), B10 SSRXN1 (io), B11 SSRXP1 (io), B12 GND (power), SH1 SHIELD (power), SH2 SHIELD (power), SH3 SHIELD (power), SH4 SHIELD (power)
text: USB TYPE - C

## USBLC6-2P6
designator U?
17V Clamp 5A _8/20Âµs_ Ipp Tvs Diode Surface Mount SOT-666; MF: STMicroelectronics; Value: *; MP: USBLC6-2P6; SnapEDA_Link: https://www.snapeda.com/parts/USBLC6-2P6/STMicroelectronics/view-part/106846/?ref=snap; Availability: Unavailable; Price: None; Package: SOT-563 STMicroelectronics
footprint SOT50P160X60-6N
pins: 1 +DIN (io), 2 GND (power), 3 -Din (io), 4 -DOUT (io), 5 VBUS (power), 6 +DOUT (io)

## VARISTOR (VDR)
designator VR??, comment xxDxxx
VARISTORS; Manufacturer: china-canada-philipina; Designer: M Khosravi; Models: MOV-VDR-COV; Data: 2017-1-5; Link: digikey.com; VALUE: xxDxxx; PUBLISHER: M Khosravi
footprint 05D XXX (MOV-05DxxxK Metal Oxide Varistors (MOVs) are 5 mm-Design:Abbas Basereh)
footprint 07D XXX (MOV-07DxxxK Metal Oxide Varistors (MOVs) are 7 mm-Design:Abbas Basereh)
footprint 10D XXX (MOV-10DxxxK Metal Oxide Varistors (MOVs) are 10 mm-Design:Abbas Basereh)
footprint 14D XXX (MOV-14DxxxK Metal Oxide Varistors (MOVs) are 14 mm-Design:Abbas Basereh)
footprint 20D XXX (MOV-20DxxxK Metal Oxide Varistors (MOVs) are 20 mm-Design:Abbas Basereh)
footprint 23D XXX (MOV-23DxxxK Metal Oxide Varistors (MOVs) are 23 mm-Design:Abbas Basereh)
pins: 1, 2

## XTAL
designator Y?, comment 12 MHz
XTAL Crystal; Designer: M Khosravi; Design Date: 2017-1-3; ComponentLink1Description: Datasheet; ComponentLink2Description: Reference; Mounting Technology: Surface Mount\Through-Hole; Value: 12 MHz; Status: Unreleased
footprint CRYSTAL Small (DESIGNER ABBAS BASEREH)
footprint Crystal SMD (DESIGNER ABBAS BASEREH)
footprint XTAL 16MHZ (Crystal Oscillator)
footprint XTAL L (Crystal Oscillator)
footprint XTAL M (Crystal Oscillator)
footprint XTAL RTC (Crystal Oscillator)
pins: 1 OSC1, 2 OSC2

## ZENER
designator DZ?, comment 1.2V
DIODE ZENER; Published: 2017-1-12; PackageVersion: 2017-1-12; PackageReference: DO 35; Publisher: MMD khosravi; PackageDescription: DIODE GEN ZENER; ComponentLink1Description: Manufacturer Link; ComponentLink2Description: Datasheet; VALUE: 1.2V
footprint DO 35 (Diode)
footprint SOD323 (SOD-323; 2 Leads; Body 1.8 x 1.35 mm, (LxW))
footprint SOD80, LL-34 (Diode, MiniMELF)
footprint SOD123 (SOD-123; 2 Leads; Body 2.7 x 1.6 mm, (LxW))
pins: 1, 2